# Altium footprint library ATK-2014-09-12.PcbLib: 436 footprints (part 25 of 28)
Each footprint in its own frame and in the unit in brackets; x right, y up, seen from the top. Pads: shape width x height; smd on the part's side, far side on the other; paste and mask are expansions set on the pad; w line width, h text height; cw(c..) or ccw(c..) is an arc to the next point about the centre after c.
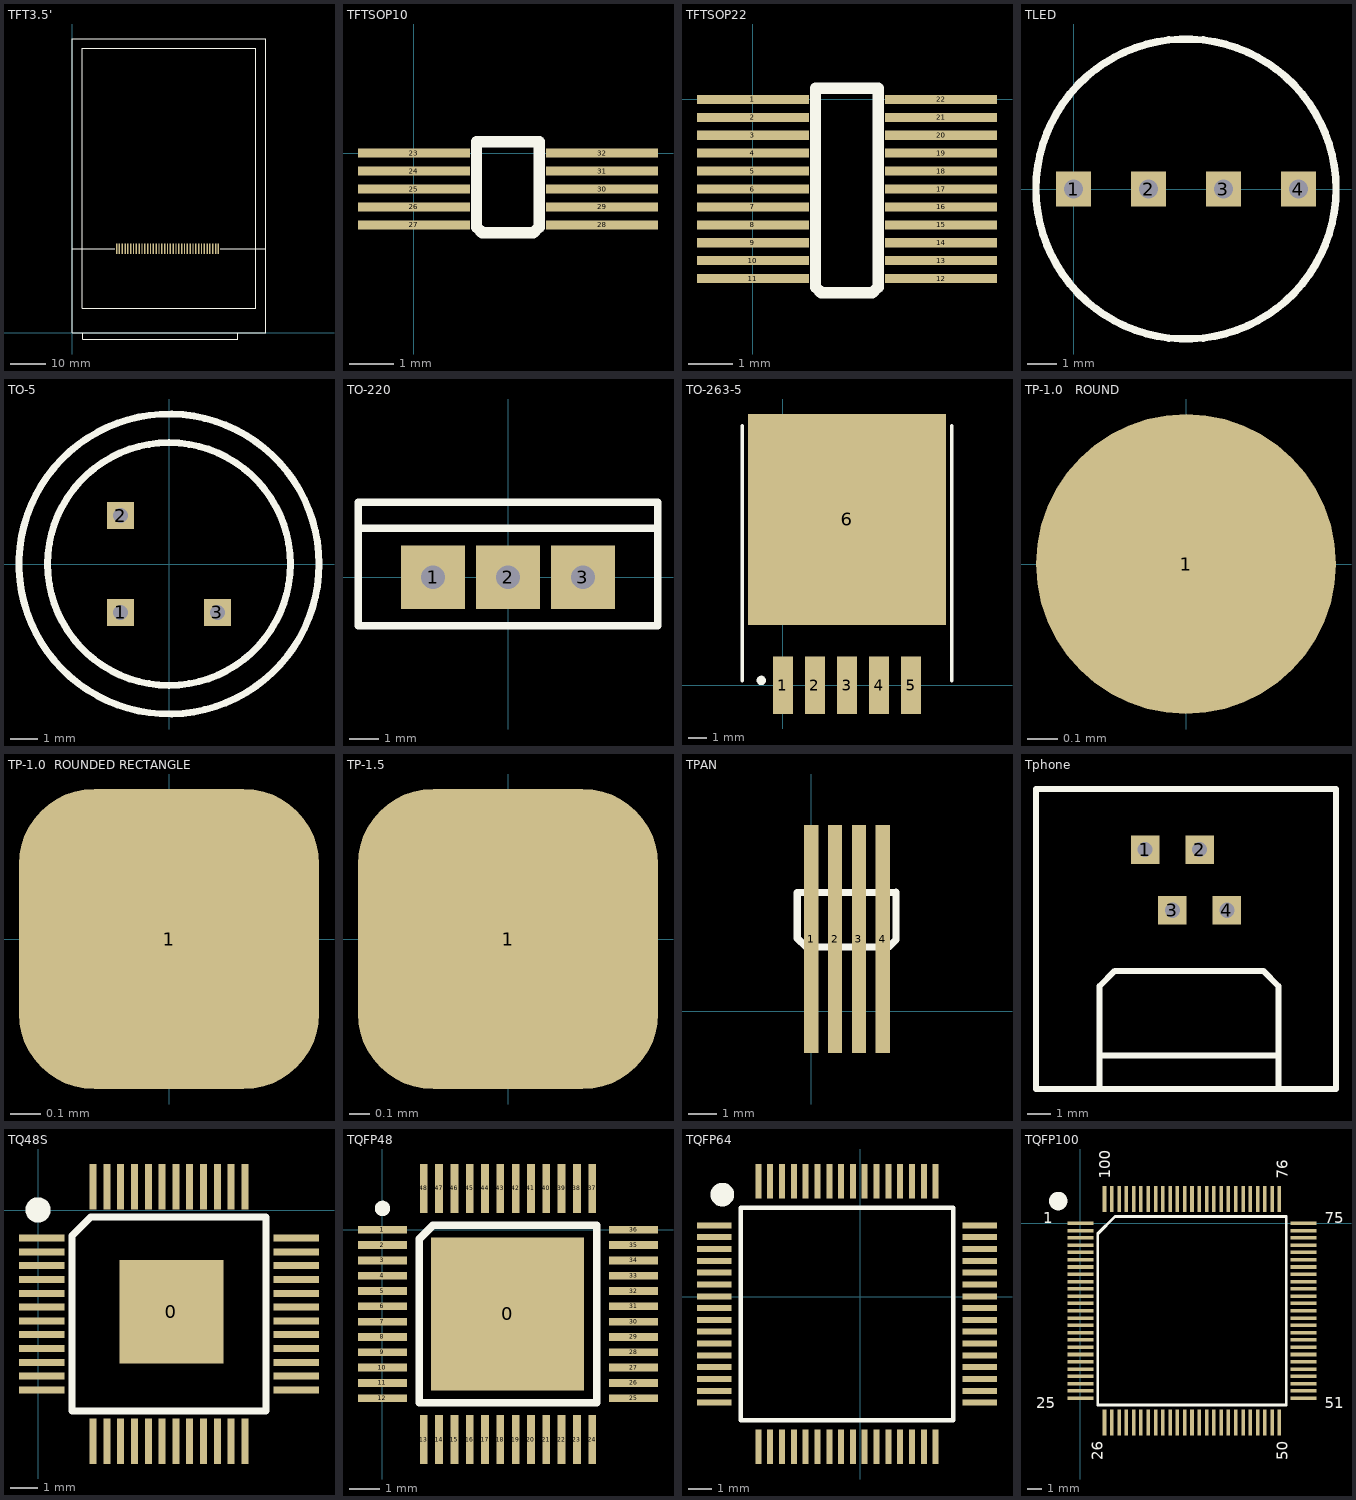
[diagram p24: the footprints below, top view; thin cyan lines are the x and y axes]

## TFT3.5' [mm] "TFT,LCD,480*320,3.5',TOUCH,16bit"
height 3.5
pads (37):
  rect 0.4x3 smd: 1(12.526,23.749) 2(13.326,23.749) 3(14.126,23.749) 4(14.926,23.749) 5(15.726,23.749) 6(16.526,23.749) 7(17.326,23.749) 8(18.126,23.749) 9(18.926,23.749) 10(19.726,23.749) 11(20.526,23.749) 12(21.326,23.749) 13(22.126,23.749) 14(22.926,23.749) 15(23.726,23.749) 16(24.526,23.749) 17(25.326,23.749) 18(26.126,23.749) 19(26.926,23.749) 20(27.726,23.749) 21(28.526,23.749) 22(29.326,23.749) 23(30.126,23.749) 24(30.926,23.749) 25(31.726,23.749) 26(32.526,23.749) 27(33.326,23.749) 28(34.126,23.749) 29(34.926,23.749) 30(35.726,23.749) 31(36.526,23.749) 32(37.326,23.749) 33(38.126,23.749) 34(38.926,23.749) 35(39.726,23.749) 36(40.526,23.749) 37(41.326,23.749)
Top Overlay:
  lines w0.203: 0,23.7 12.065,23.7 ; 3,0 3,-1.8 46.736,-1.8 46.736,0 ; 41.783,23.7 54.651,23.7 ; 0,0 0,83 54.7,83 54.7,0 0,0 ; 2.85,6.951 2.85,80.391 51.85,80.391 51.85,6.951 2.85,6.951

## TFTSOP10 [mm]
pads (10):
  rect 2.5x0.203 smd: 23(0,0) 24(0,-0.4) 25(0,-0.8) 26(0,-1.2) 27(0,-1.6) 28(4.2,-1.6) 29(4.2,-1.2) 30(4.2,-0.8) 31(4.2,-0.4) 32(4.2,0)
Top Overlay:
  lines w0.254: 1.397,-1.651 1.397,0.254 2.794,0.254 2.794,-1.651 2.667,-1.778 1.524,-1.778 1.397,-1.651

## TFTSOP22 [mm]
pads (22):
  rect 2.5x0.203 smd: 1(0,0) 2(0,-0.4) 3(0,-0.8) 4(0,-1.2) 5(0,-1.6) 6(0,-2) 7(0,-2.4) 8(0,-2.8) 9(0,-3.2) 10(0,-3.6) 11(0,-4) 12(4.2,-4) 13(4.2,-3.6) 14(4.2,-3.2) 15(4.2,-2.8) 16(4.2,-2.4) 17(4.2,-2) 18(4.2,-1.6) 19(4.2,-1.2) 20(4.2,-0.8) 21(4.2,-0.4) 22(4.2,0)
Top Overlay:
  lines w0.254: 1.397,-4.191 1.524,-4.318 2.667,-4.318 2.794,-4.191 2.794,0.254 1.397,0.254 1.397,-4.191

## TLED [mm] "LED"
height 10
pads (4):
  rect 1.2x1.2 hole 0.635: 1(0,0) 2(2.54,0) 3(5.08,0) 4(7.62,0)
Top Overlay:
  circle w0.254: c3.81,0 r5.082

## TO-5 [mm]
height 15.1
pads (3):
  rect 1x1 hole 0.55: 1(-1.778,-1.778) 2(-1.778,1.778) 3(1.778,-1.778)
Top Overlay:
  circle w0.254: c0,0 r5.5
  circle w0.254: c0,0 r4.45

## TO-220 [mil] "TO-220"
height 1181.1
pads (3):
  rect 85x85 hole 31.5: 1(-100,0) 2(0,0) 3(100,0)
Top Overlay:
  lines w10: -200,65 100,65 200,65 ; -200,65 -200,-65 200,-65 200,65 ; -200,65 -200,100 200,100 200,65

## TO-263-5 [mil]
height 47.24
pads (6):
  rect 42x120 smd: 1(0,0) 2(66.93,0) 3(133.86,0) 4(200.79,0) 5(267.72,0)
  rect 414x440 smd: 6(133.86,346)
Top Overlay:
  circle w9.84: c-44.92,10 r4.92
  lines w7.87: -84.65,10 -84.65,541.5 ; 352.36,10 352.36,541.5

## TP-1.0   ROUND [mm] "1.0mm"
pads (1):
  round 1 smd: 1(0,0)

## TP-1.0  ROUNDED RECTANGLE [mm]
pads (1):
  rrect50% 1x1 smd: 1(0,0)

## TP-1.5 [mm] "1.5mm"
pads (1):
  rrect50% 1.5x1.5 smd: 1(0,0)

## TPAN [mm] "TOUCH SCREEN"
pads (4):
  rect 0.5x8 smd: 1(0,2.54) 2(0.838,2.54) 3(1.676,2.54) 4(2.515,2.54)
Top Overlay:
  lines w0.254: -0.483,2.565 -0.178,2.261 2.718,2.261 2.972,2.515 2.972,4.191 2.946,4.166 -0.483,4.166 -0.483,2.565

## Tphone [mm] "Tphone"
height 13
pads (4):
  rect 1.2x1.2 hole 0.635: 1(5.842,-5.08) 2(8.128,-5.08) 3(6.985,-7.62) 4(9.271,-7.62)
Top Overlay:
  lines w0.254: 3.937,-15.113 3.937,-10.795 4.572,-10.16 10.795,-10.16 11.43,-10.795 11.43,-15.113 ; 3.937,-13.716 11.43,-13.716 ; 12.192,-15.113 12.7,-15.113 ; 13.843,-12.446 13.843,-2.54 2.921,-2.54 1.27,-2.54 1.27,-12.446 1.27,-15.113 13.843,-15.113 13.843,-11.811

## TQ48S [mil] "TQ48S"
pads (49):
  rect 147.64x147.64 smd: 0(190,-145)
  rect 65x10 smd: 1(5.42,-39.71) 2(5.42,-59.39) 3(5.42,-79.08) 4(5.42,-98.76) 5(5.42,-118.45) 6(5.42,-138.13) 7(5.42,-157.82) 8(5.42,-177.5) 9(5.42,-197.19) 10(5.42,-216.87) 11(5.42,-236.56) 12(5.42,-256.24) 25(367.63,-256.24) 26(367.63,-236.56) 27(367.63,-216.87) 28(367.63,-197.19) 29(367.63,-177.5) 30(367.63,-157.82) 31(367.63,-138.13) 32(367.63,-118.45) 33(367.63,-98.76) 34(367.63,-79.08) 35(367.63,-59.39) 36(367.63,-39.71)
  rect 10x65 smd: 13(78.26,-329.08) 14(97.94,-329.08) 15(117.63,-329.08) 16(137.31,-329.08) 17(157,-329.08) 18(176.68,-329.08) 19(196.37,-329.08) 20(216.05,-329.08) 21(235.74,-329.08) 22(255.42,-329.08) 23(275.11,-329.08) 24(294.79,-329.08) 37(294.79,33.13) 38(275.11,33.13) 39(255.42,33.13) 40(235.74,33.13) 41(216.05,33.13) 42(196.37,33.13) 43(176.68,33.13) 44(157,33.13) 45(137.31,33.13) 46(117.63,33.13) 47(97.94,33.13) 48(78.26,33.13)
Top Overlay:
  circle w25: c0.07,0.29 r5.35
  lines w10: 48.73,-285.77 48.73,-36.4 74.95,-10.18 324.32,-10.18 324.32,-285.77 48.73,-285.77

## TQFP48 [mm] "EP 7x7 0.5P"
height 1.1
pads (49):
  rect 5x5 smd: 0(4.089,-2.743)
  rect 1.6x0.254 smd: 1(0,0) 2(0,-0.5) 3(0,-1) 4(0,-1.5) 5(0,-2) 6(0,-2.5) 7(0,-3) 8(0,-3.5) 9(0,-4) 10(0,-4.5) 11(0,-5) 12(0,-5.5) 25(8.2,-5.5) 26(8.2,-5) 27(8.2,-4.5) 28(8.2,-4) 29(8.2,-3.5) 30(8.2,-3) 31(8.2,-2.5) 32(8.2,-2) 33(8.2,-1.5) 34(8.2,-1) 35(8.2,-0.5) 36(8.2,0)
  rect 0.254x1.6 smd: 13(1.35,-6.85) 14(1.85,-6.85) 15(2.35,-6.85) 16(2.85,-6.85) 17(3.35,-6.85) 18(3.85,-6.85) 19(4.35,-6.85) 20(4.85,-6.85) 21(5.35,-6.85) 22(5.85,-6.85) 23(6.35,-6.85) 24(6.85,-6.85) 37(6.85,1.35) 38(6.35,1.35) 39(5.85,1.35) 40(5.35,1.35) 41(4.85,1.35) 42(4.35,1.35) 43(3.85,1.35) 44(3.35,1.35) 45(2.85,1.35) 46(2.35,1.35) 47(1.85,1.35) 48(1.35,1.35)
Top Overlay:
  circle w0.25: c0,0.7 r0.125
  lines w0.2: 1.2,-5.65 7,-5.65 7,0.15
  lines w0.254: 1.2,-5.65 7,-5.65 7,0.15 2.826,0.15 1.651,0.15 1.2,-0.301 1.2,-5.65

## TQFP64 [mm]
height 1
pads (64):
  rect 1.45x0.254 smd: 1(-6.184,3.013) 2(-6.184,2.513) 3(-6.184,2.013) 4(-6.184,1.513) 5(-6.184,1.013) 6(-6.184,0.513) 7(-6.184,0.013) 8(-6.184,-0.487) 9(-6.184,-0.987) 10(-6.184,-1.487) 11(-6.184,-1.987) 12(-6.184,-2.487) 13(-6.184,-2.987) 14(-6.184,-3.487) 15(-6.184,-3.987) 16(-6.184,-4.487) 33(5.066,-4.487) 34(5.066,-3.987) 35(5.066,-3.487) 36(5.066,-2.987) 37(5.066,-2.487) 38(5.066,-1.987) 39(5.066,-1.487) 40(5.066,-0.987) 41(5.066,-0.487) 42(5.066,0.013) 43(5.066,0.513) 44(5.066,1.013) 45(5.066,1.513) 46(5.066,2.013) 47(5.066,2.513) 48(5.066,3.013)
  rect 0.254x1.45 smd: 17(-4.309,-6.362) 18(-3.809,-6.362) 19(-3.309,-6.362) 20(-2.809,-6.362) 21(-2.309,-6.362) 22(-1.809,-6.362) 23(-1.309,-6.362) 24(-0.809,-6.362) 25(-0.309,-6.362) 26(0.191,-6.362) 27(0.691,-6.362) 28(1.191,-6.362) 29(1.691,-6.362) 30(2.191,-6.362) 31(2.691,-6.362) 32(3.191,-6.362) 49(3.191,4.888) 50(2.691,4.888) 51(2.191,4.888) 52(1.691,4.888) 53(1.191,4.888) 54(0.691,4.888) 55(0.191,4.888) 56(-0.309,4.888) 57(-0.809,4.888) 58(-1.309,4.888) 59(-1.809,4.888) 60(-2.309,4.888) 61(-2.809,4.888) 62(-3.309,4.888) 63(-3.809,4.888) 64(-4.309,4.888)
Top Overlay:
  circle w0.5: c-5.838,4.318 r0.25
  lines w0.2: -5.059,-5.237 3.941,-5.237 3.941,3.763 -5.059,3.763 -5.059,-5.237

## TQFP100 [mil]
pads (100):
  rect 70x9.5 smd: 1(0,0) 2(0,-19.68) 3(0,-39.37) 4(0,-59.05) 5(0,-78.74) 6(0,-98.42) 7(0,-118.11) 8(0,-137.79) 9(0,-157.48) 10(0,-177.16) 11(0,-196.85) 12(0,-216.53) 13(0,-236.22) 14(0,-255.91) 15(0,-275.59) 16(0,-295.27) 17(0,-314.96) 18(0,-334.64) 19(0,-354.33) 20(0,-374.01) 21(0,-393.7) 22(0,-413.38) 23(0,-433.07) 24(0,-452.75) 25(0,-472.44) 51(602.36,-472.44) 52(602.36,-452.75) 53(602.36,-433.07) 54(602.36,-413.38) 55(602.36,-393.7) 56(602.36,-374.01) 57(602.36,-354.33) 58(602.36,-334.64) 59(602.36,-314.96) 60(602.36,-295.27) 61(602.36,-275.59) 62(602.36,-255.91) 63(602.36,-236.22) 64(602.36,-216.53) 65(602.36,-196.85) 66(602.36,-177.16) 67(602.36,-157.48) 68(602.36,-137.79) 69(602.36,-118.11) 70(602.36,-98.42) 71(602.36,-78.74) 72(602.36,-59.05) 73(602.36,-39.37) 74(602.36,-19.68) 75(602.36,0)
  rect 9.5x70 smd: 26(64.96,-537.4) 27(84.65,-537.4) 28(104.33,-537.4) 29(124.02,-537.4) 30(143.7,-537.4) 31(163.39,-537.4) 32(183.07,-537.4) 33(202.76,-537.4) 34(222.44,-537.4) 35(242.13,-537.4) 36(261.81,-537.4) 37(281.5,-537.4) 38(301.18,-537.4) 39(320.87,-537.4) 40(340.55,-537.4) 41(360.24,-537.4) 42(379.92,-537.4) 43(399.61,-537.4) 44(419.29,-537.4) 45(438.98,-537.4) 46(458.66,-537.4) 47(478.35,-537.4) 48(498.03,-537.4) 49(517.72,-537.4) 50(537.4,-537.4) 76(537.4,64.96) 77(517.72,64.96) 78(498.03,64.96) 79(478.35,64.96) 80(458.66,64.96) 81(438.98,64.96) 82(419.29,64.96) 83(399.61,64.96) 84(379.92,64.96) 85(360.24,64.96) 86(340.55,64.96) 87(320.87,64.96) 88(301.18,64.96) 89(281.5,64.96) 90(261.81,64.96) 91(242.13,64.96) 92(222.44,64.96) 93(202.76,64.96) 94(183.07,64.96) 95(163.39,64.96) 96(143.7,64.96) 97(124.02,64.96) 98(104.33,64.96) 99(84.65,64.96) 100(64.96,64.96)
Top Overlay:
  circle w25: c-60,60 r12.5
  lines w7.87: 46.65,-490.75 46.65,-28.35 93.31,18.31 555.71,18.31 555.71,-490.75 46.65,-490.75
  text "1" at -100,0 h30
  text "25" at -120,-500 h30
  text "26" at 60,-640 h30
  text "50" at 560,-640 h30
  text "51" at 660,-500 h30
  text "75" at 660,0 h30
  text "76" at 560,120 h30
  text "100" at 80,120 h30